# Altium footprint library MYSWITCH.PcbLib: 2 footprints
Each footprint in its own frame and in the unit in brackets; x right, y up, seen from the top. Pads: shape width x height; smd on the part's side, far side on the other; paste and mask are expansions set on the pad; w line width, h text height; cw(c..) or ccw(c..) is an arc to the next point about the centre after c.
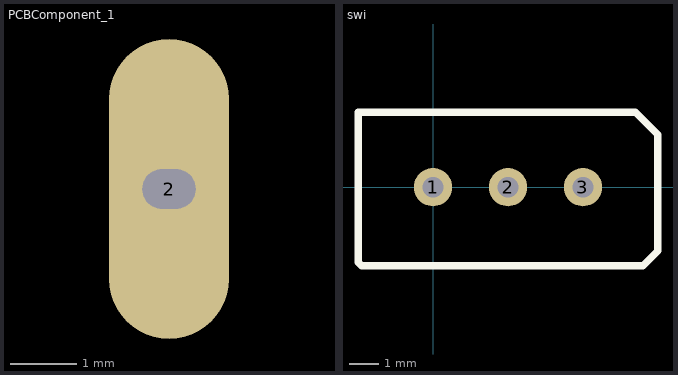
[diagram p0: the footprints below, top view; thin cyan lines are the x and y axes]

## PCBComponent_1 [mm]
pads (1):
  oval 1.8x4.5 hole 0.6 slot 0.8 at 0 deg: 2(3.937,3.937)

## swi [mm]
pads (3):
  round 1.3 hole 0.7: 1(0,0) 2(2.54,0) 3(5.08,0)
Top Overlay:
  lines w0.254: -2.54,-2.54 -2.413,-2.667 7.112,-2.667 7.62,-2.159 7.62,1.778 6.858,2.54 -2.54,2.54 -2.54,-2.54